# EAGLE library part STM32G473-100B (library Bits_library_eagle 9x)
STM32G473 LQFP128
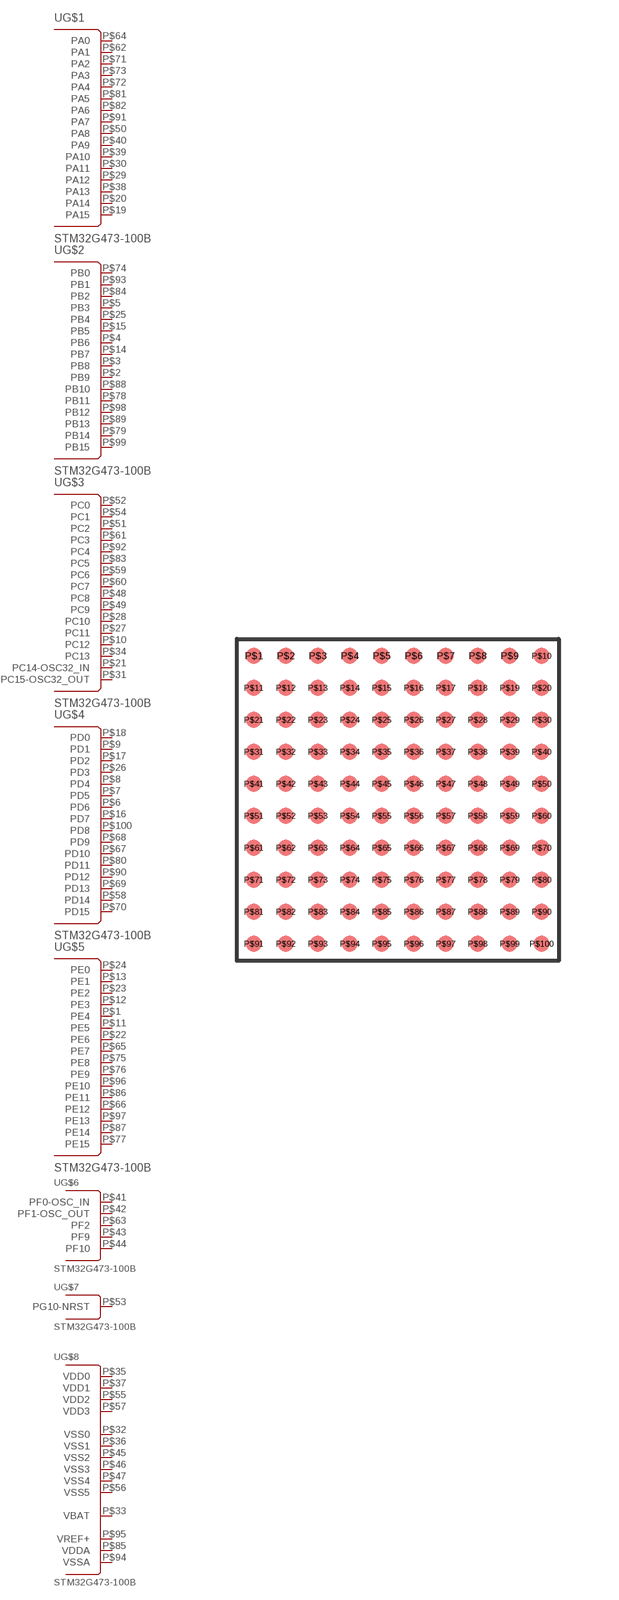
[diagram p33: symbol with the pads of TFBGA100; footprint TFBGA100]

Designator prefix -; gates G$1=STM32-PORTA-100 G$2=STM32-PORTB-100 G$3=STM32-PORTC-100 G$4=STM32-PORTD-100 G$5=STM32-PORTE-100 G$6=STM32-PORTF-100 G$7=STM32-PORTG-100 G$8=STM32-PWR-100B

## STM32G473-100B  [TFBGA100]
P$1  G$5:PE4
P$2  G$2:PB9
P$3  G$2:PB8
P$4  G$2:PB6
P$5  G$2:PB3
P$6  G$4:PD6
P$7  G$4:PD5
P$8  G$4:PD4
P$9  G$4:PD1
P$10  G$3:PC12
P$11  G$5:PE5
P$12  G$5:PE3
P$13  G$5:PE1
P$14  G$2:PB7
P$15  G$2:PB5
P$16  G$4:PD7
P$17  G$4:PD2
P$18  G$4:PD0
P$19  G$1:PA15
P$20  G$1:PA14
P$21  G$3:PC14-OSC32_IN
P$22  G$5:PE6
P$23  G$5:PE2
P$24  G$5:PE0
P$25  G$2:PB4
P$26  G$4:PD3
P$27  G$3:PC11
P$28  G$3:PC10
P$29  G$1:PA12
P$30  G$1:PA11
P$31  G$3:PC15-OSC32_OUT
P$32  G$8:VSS0  pwr
P$33  G$8:VBAT  pwr
P$34  G$3:PC13
P$35  G$8:VDD0  pwr
P$36  G$8:VSS1  pwr
P$37  G$8:VDD1  pwr
P$38  G$1:PA13
P$39  G$1:PA10
P$40  G$1:PA9
P$41  G$6:PF0-OSC_IN
P$42  G$6:PF1-OSC_OUT
P$43  G$6:PF9
P$44  G$6:PF10
P$45  G$8:VSS2  pwr
P$46  G$8:VSS3  pwr
P$47  G$8:VSS4  pwr
P$48  G$3:PC8
P$49  G$3:PC9
P$50  G$1:PA8
P$51  G$3:PC2
P$52  G$3:PC0
P$53  G$7:PG10-NRST
P$54  G$3:PC1
P$55  G$8:VDD2  pwr
P$56  G$8:VSS5  pwr
P$57  G$8:VDD3  pwr
P$58  G$4:PD14
P$59  G$3:PC6
P$60  G$3:PC7
P$61  G$3:PC3
P$62  G$1:PA1
P$63  G$6:PF2
P$64  G$1:PA0
P$65  G$5:PE7
P$66  G$5:PE12
P$67  G$4:PD10
P$68  G$4:PD9
P$69  G$4:PD13
P$70  G$4:PD15
P$71  G$1:PA2
P$72  G$1:PA4
P$73  G$1:PA3
P$74  G$2:PB0
P$75  G$5:PE8
P$76  G$5:PE9
P$77  G$5:PE15
P$78  G$2:PB11
P$79  G$2:PB14
P$80  G$4:PD11
P$81  G$1:PA5
P$82  G$1:PA6
P$83  G$3:PC5
P$84  G$2:PB2
P$85  G$8:VDDA  pwr
P$86  G$5:PE11
P$87  G$5:PE14
P$88  G$2:PB10
P$89  G$2:PB13
P$90  G$4:PD12
P$91  G$1:PA7
P$92  G$3:PC4
P$93  G$2:PB1
P$94  G$8:VSSA  pwr
P$95  G$8:VREF+  pwr
P$96  G$5:PE10
P$97  G$5:PE13
P$98  G$2:PB12
P$99  G$2:PB15
P$100  G$4:PD8

## Footprint TFBGA100 (pad centres in mm)
smd 0.4 x 0.4: P$1 -3.6,3.6; P$2 -2.8,3.6; P$3 -2,3.6; P$4 -1.2,3.6; P$5 -0.4,3.6; P$6 0.4,3.6; P$7 1.2,3.6; P$8 2,3.6; P$9 2.8,3.6; P$10 3.6,3.6; P$11 -3.6,2.8; P$12 -2.8,2.8; P$13 -2,2.8; P$14 -1.2,2.8; P$15 -0.4,2.8; P$16 0.4,2.8; P$17 1.2,2.8; P$18 2,2.8; P$19 2.8,2.8; P$20 3.6,2.8; P$21 -3.6,2; P$22 -2.8,2; P$23 -2,2; P$24 -1.2,2; P$25 -0.4,2; P$26 0.4,2; P$27 1.2,2; P$28 2,2; P$29 2.8,2; P$30 3.6,2; P$31 -3.6,1.2; P$32 -2.8,1.2; P$33 -2,1.2; P$34 -1.2,1.2; P$35 -0.4,1.2; P$36 0.4,1.2; P$37 1.2,1.2; P$38 2,1.2; P$39 2.8,1.2; P$40 3.6,1.2; P$41 -3.6,0.4; P$42 -2.8,0.4; P$43 -2,0.4; P$44 -1.2,0.4; P$45 -0.4,0.4; P$46 0.4,0.4; P$47 1.2,0.4; P$48 2,0.4; P$49 2.8,0.4; P$50 3.6,0.4; P$51 -3.6,-0.4; P$52 -2.8,-0.4; P$53 -2,-0.4; P$54 -1.2,-0.4; P$55 -0.4,-0.4; P$56 0.4,-0.4; P$57 1.2,-0.4; P$58 2,-0.4; P$59 2.8,-0.4; P$60 3.6,-0.4; P$61 -3.6,-1.2; P$62 -2.8,-1.2; P$63 -2,-1.2; P$64 -1.2,-1.2; P$65 -0.4,-1.2; P$66 0.4,-1.2; P$67 1.2,-1.2; P$68 2,-1.2; P$69 2.8,-1.2; P$70 3.6,-1.2; P$71 -3.6,-2; P$72 -2.8,-2; P$73 -2,-2; P$74 -1.2,-2; P$75 -0.4,-2; P$76 0.4,-2; P$77 1.2,-2; P$78 2,-2; P$79 2.8,-2; P$80 3.6,-2; P$81 -3.6,-2.8; P$82 -2.8,-2.8; P$83 -2,-2.8; P$84 -1.2,-2.8; P$85 -0.4,-2.8; P$86 0.4,-2.8; P$87 1.2,-2.8; P$88 2,-2.8; P$89 2.8,-2.8; P$90 3.6,-2.8; P$91 -3.6,-3.6; P$92 -2.8,-3.6; P$93 -2,-3.6; P$94 -1.2,-3.6; P$95 -0.4,-3.6; P$96 0.4,-3.6; P$97 1.2,-3.6; P$98 2,-3.6; P$99 2.8,-3.6; P$100 3.6,-3.6